# Altium footprint library banana.PcbLib: 1 footprints
Each footprint in its own frame and in the unit in brackets; x right, y up, seen from the top. Pads: shape width x height; smd on the part's side, far side on the other; paste and mask are expansions set on the pad; w line width, h text height; cw(c..) or ccw(c..) is an arc to the next point about the centre after c.
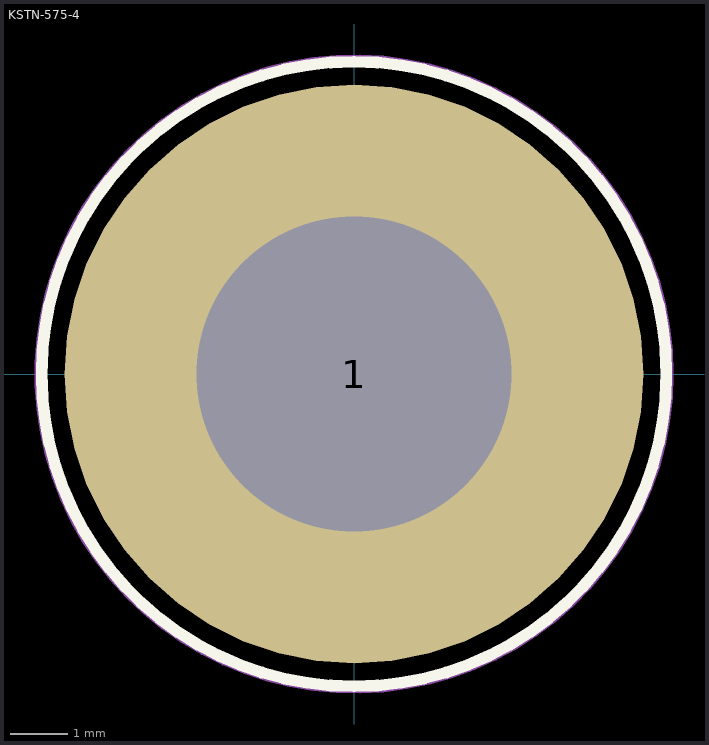
[diagram p0: the footprint, top view; thin cyan lines are the x and y axes]

## KSTN-575-4 [mm] "Banana Jack, Non-Insulated, Dia 7.92mm"
height 7.86
pads (1):
  round 10 hole 5.45: 1(0,0)
Top Overlay:
  circle w0.2: c0,0 r5.4
Bottom Overlay:
  circle w0.2: c0,0 r5.4
Mechanical 13:
  circle w0.1: c-0.031,-0.008 r2.095
  circle w0.1: c-0.031,-0.008 r3.96
Mechanical 15:
  circle w0.05: c0,0 r5.5
  lines w0.1: -0.5,0 0.5,0 ; 0,-0.5 0,0.5
3D body "Keystone_575-4.stp": height 2.36, standoff -5.5, extent -3.981,-3.957 3.919,3.941